# EAGLE library part MSP430F5172IRSB (library texas-custom)
IC MCU 16BIT 32KB FLASH 40WQFN
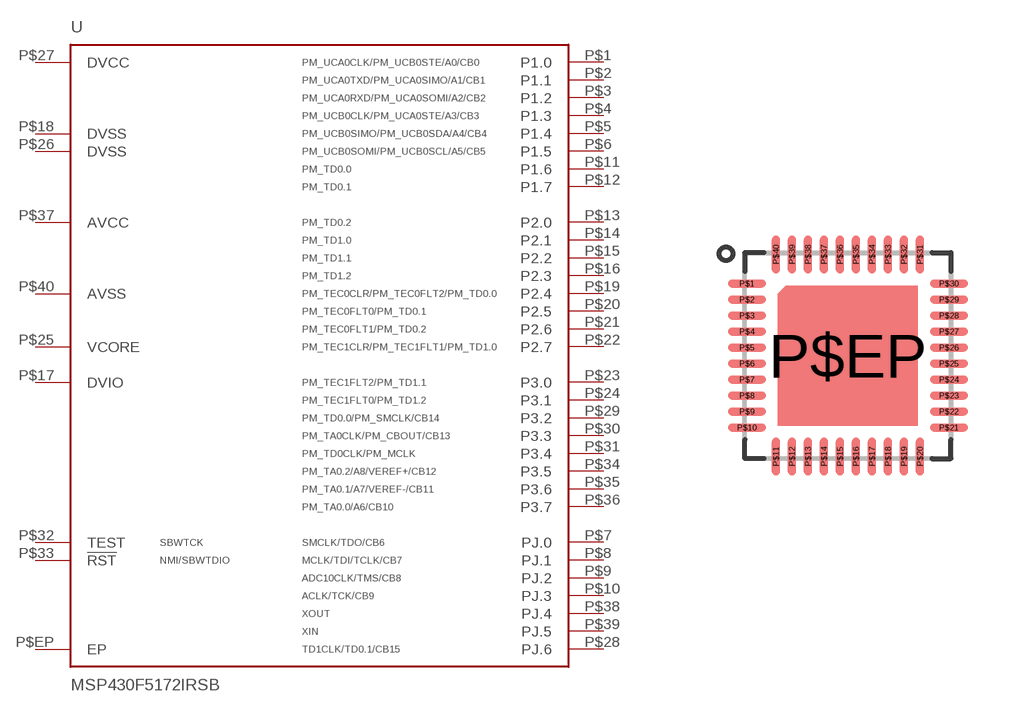
[diagram p2: symbol with the pads of S-PWGFN-N40; footprint S-PWGFN-N40]

Designator prefix U

## MSP430F5172IRSB  [S-PWGFN-N40]
P$1  P1.0
P$2  P1.1
P$3  P1.2
P$4  P1.3
P$5  P1.4
P$6  P1.5
P$7  PJ.0
P$8  PJ.1
P$9  PJ.2
P$10  PJ.3
P$11  P1.6
P$12  P1.7
P$13  P2.0
P$14  P2.1
P$15  P2.2
P$16  P2.3
P$17  DVIO
P$18  DVSS
P$19  P2.4
P$20  P2.5
P$21  P2.6
P$22  P2.7
P$23  P3.0
P$24  P3.1
P$25  VCORE
P$26  DVSS
P$27  DVCC
P$28  PJ.6
P$29  P3.2
P$30  P3.3
P$31  P3.4
P$32  TEST
P$33  !RST
P$34  P3.5
P$35  P3.6
P$36  P3.7
P$37  AVCC
P$38  PJ.4
P$39  PJ.5
P$40  AVSS
P$EP  EP

## Footprint S-PWGFN-N40 (pad centres in mm)
RSB (40-pin Plastic Quad Flatpack No-Lead)
smd 0.95 x 0.2: P$1 -2.525,1.8; P$2 -2.525,1.4; P$3 -2.525,1; P$4 -2.525,0.6; P$5 -2.525,0.2; P$6 -2.525,-0.2; P$7 -2.525,-0.6; P$8 -2.525,-1; P$9 -2.525,-1.4; P$10 -2.525,-1.8; P$21 2.525,-1.8; P$22 2.525,-1.4; P$23 2.525,-1; P$24 2.525,-0.6; P$25 2.525,-0.2; P$26 2.525,0.2; P$27 2.525,0.6; P$28 2.525,1; P$29 2.525,1.4; P$30 2.525,1.8
smd 0.2 x 0.95: P$11 -1.8,-2.525; P$12 -1.4,-2.525; P$13 -1,-2.525; P$14 -0.6,-2.525; P$15 -0.2,-2.525; P$16 0.2,-2.525; P$17 0.6,-2.525; P$18 1,-2.525; P$19 1.4,-2.525; P$20 1.8,-2.525; P$31 1.8,2.525; P$32 1.4,2.525; P$33 1,2.525; P$34 0.6,2.525; P$35 0.2,2.525; P$36 -0.2,2.525; P$37 -0.6,2.525; P$38 -1,2.525; P$39 -1.4,2.525; P$40 -1.8,2.525
smd 3.3 x 3.3: P$EP 0,0